# Altium schematic symbol library UGO.SchLib: 12 symbols
Pins are listed as number, name and electrical type; pins without a type are passive.

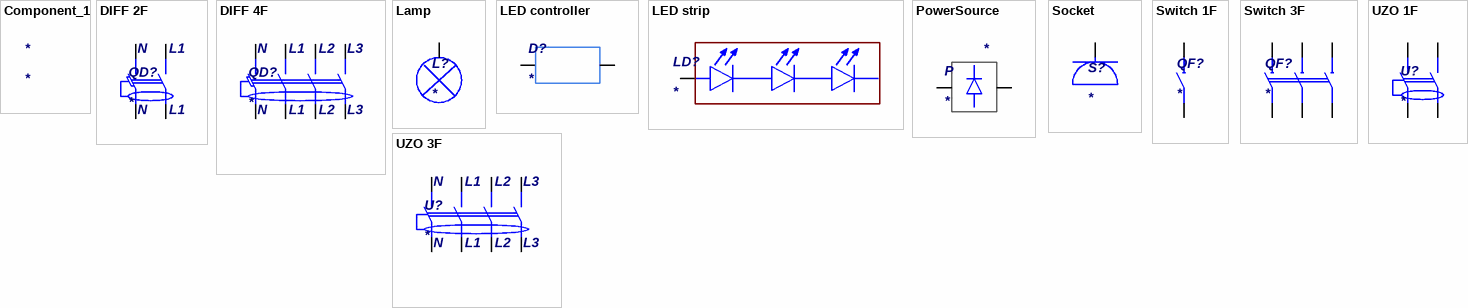
[diagram p0: symbols Component_1 to UZO 3F]

## Component_1
designator *

## DIFF 2F
designator QD?
Current: *
pins: 1, 2, 3, 4
text: N; L1

## DIFF 4F
designator QD?
Current: *
pins: 1, 2, 2, 2, 3, 4, 4, 4
text: N; L1; L2; L3

## Lamp
designator L?
Power: *
pins: 6

## LED controller
designator D?
Type: *; Power: *; Model: *
pins: 8, 9

## LED strip
designator LD?
Power: *; Voltage: *
pins: 5

## PowerSource
designator P
Power: *; Output voltage: *
pins: 3, 4

## Socket
designator S?
pins: 7

## Switch 1F
designator QF?
Current: *
pins: 1, 3

## Switch 3F
designator QF?
Current: *
pins: 1, 1, 1, 3, 3, 3

## UZO 1F
designator U?
Current: *
pins: 1, 2, 3, 4

## UZO 3F
designator U?
Current: *
pins: 1, 2, 2, 2, 3, 4, 4, 4
text: N; L1; L2; L3